# EAGLE library part K-HEADER-FEMALE-1X6- (library elpp-tht-v1.4)
FEMALE HEADER
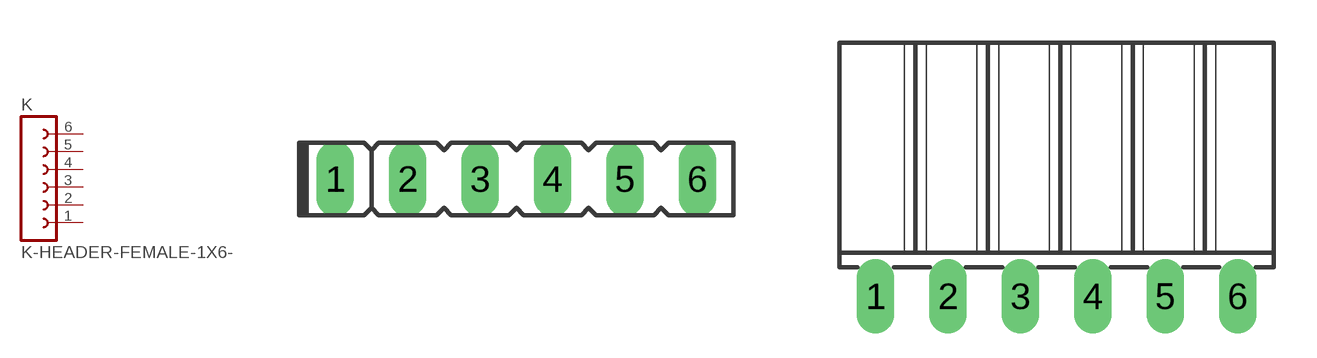
[diagram p18: symbol with the pads of ELPP-SIL-F-6-WAY; footprints ELPP-SIL-F-6-WAY, ELPP-SIL-F-6-WAY-90DEG]

Designator prefix K

## K-HEADER-FEMALE-1X6-V (FARNELL: 9728856; RS: unknown)  [ELPP-SIL-F-6-WAY]
1  1  pas
2  2  pas
3  3  pas
4  4  pas
5  5  pas
6  6  pas

## K-HEADER-FEMALE-1X6-H (FARNELL: 9728880; RS: unknown)  [ELPP-SIL-F-6-WAY-90DEG]
Pads as for ELPP-SIL-F-6-WAY

## Footprint ELPP-SIL-F-6-WAY (pad centres in mm)
FEMALE HEADER, 1 row
drill 0.8 long: 1 -6.35,0; 2 -3.81,0; 3 -1.27,0; 4 1.27,0; 5 3.81,0; 6 6.35,0

## Footprint ELPP-SIL-F-6-WAY-90DEG (pad centres in mm)
FEMALE HEADER, 1 row, 90 degrees
drill 0.8 long: 1 -6.35,0; 2 -3.81,0; 3 -1.27,0; 4 1.27,0; 5 3.81,0; 6 6.35,0